# EAGLE library part STM32F4-DISCOVERY (library STM32F4-DISCOVERY_CF_INTECH)
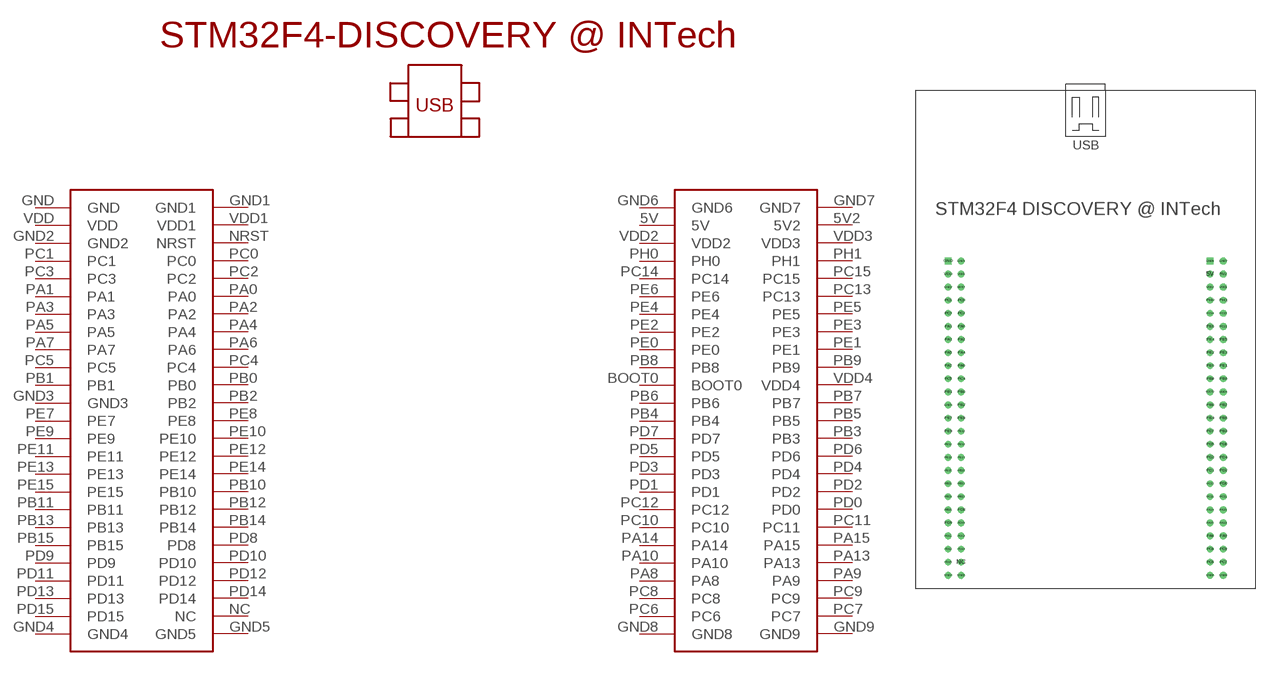
[diagram p0: symbol with the pads of STM32F4-DISCOVERY; footprint STM32F4-DISCOVERY]

Designator prefix -

## STM32F4-DISCOVERY  [STM32F4-DISCOVERY]
5V  5V
5V2  5V2
BOOT0  BOOT0
GND  GND
GND1  GND1
GND2  GND2
GND3  GND3
GND4  GND4
GND5  GND5
GND6  GND6
GND7  GND7
GND8  GND8
GND9  GND9
NC  NC
NRST  NRST
PA0  PA0
PA1  PA1
PA2  PA2
PA3  PA3
PA4  PA4
PA5  PA5
PA6  PA6
PA7  PA7
PA8  PA8
PA9  PA9
PA10  PA10
PA13  PA13
PA14  PA14
PA15  PA15
PB0  PB0
PB1  PB1
PB2  PB2
PB3  PB3
PB4  PB4
PB5  PB5
PB6  PB6
PB7  PB7
PB8  PB8
PB9  PB9
PB10  PB10
PB11  PB11
PB12  PB12
PB13  PB13
PB14  PB14
PB15  PB15
PC0  PC0
PC1  PC1
PC2  PC2
PC3  PC3
PC4  PC4
PC5  PC5
PC6  PC6
PC7  PC7
PC8  PC8
PC9  PC9
PC10  PC10
PC11  PC11
PC12  PC12
PC13  PC13
PC14  PC14
PC15  PC15
PD0  PD0
PD1  PD1
PD2  PD2
PD3  PD3
PD4  PD4
PD5  PD5
PD6  PD6
PD7  PD7
PD8  PD8
PD9  PD9
PD10  PD10
PD11  PD11
PD12  PD12
PD13  PD13
PD14  PD14
PD15  PD15
PE0  PE0
PE1  PE1
PE2  PE2
PE3  PE3
PE4  PE4
PE5  PE5
PE6  PE6
PE7  PE7
PE8  PE8
PE9  PE9
PE10  PE10
PE11  PE11
PE12  PE12
PE13  PE13
PE14  PE14
PE15  PE15
PH0  PH0
PH1  PH1
VDD  VDD
VDD1  VDD1
VDD2  VDD2
VDD3  VDD3
VDD4  VDD4

## Footprint STM32F4-DISCOVERY (pad centres in mm)
drill 0.8: 5V 24.13,12.7; 5V2 26.67,12.7; BOOT0 24.13,-10.16; GND1 -24.13,15.24; GND2 -26.67,10.16; GND3 -26.67,-12.7; GND4 -26.67,-45.72; GND5 -24.13,-45.72; GND7 26.67,15.24; GND8 24.13,-45.72; GND9 26.67,-45.72; NC -24.13,-43.18; NRST -24.13,10.16; PA0 -24.13,2.54; PA1 -26.67,2.54; PA2 -24.13,0; PA3 -26.67,0; PA4 -24.13,-2.54; PA5 -26.67,-2.54; PA6 -24.13,-5.08; PA7 -26.67,-5.08; PA8 24.13,-38.1; PA9 26.67,-38.1; PA10 24.13,-35.56; PA13 26.67,-35.56; PA14 24.13,-33.02; PA15 26.67,-33.02; PB0 -24.13,-10.16; PB1 -26.67,-10.16; PB2 -24.13,-12.7; PB3 26.67,-17.78; PB4 24.13,-15.24; PB5 26.67,-15.24; PB6 24.13,-12.7; PB7 26.67,-12.7; PB8 24.13,-7.62; PB9 26.67,-7.62; PB10 -24.13,-25.4; PB11 -26.67,-27.94; PB12 -24.13,-27.94; PB13 -26.67,-30.48; PB14 -24.13,-30.48; PB15 -26.67,-33.02; PC0 -24.13,7.62; PC1 -26.67,7.62; PC2 -24.13,5.08; PC3 -26.67,5.08; PC4 -24.13,-7.62; PC5 -26.67,-7.62; PC6 24.13,-43.18; PC7 26.67,-43.18; PC8 24.13,-40.64; PC9 26.67,-40.64; PC10 24.13,-30.48; PC11 26.67,-30.48; PC12 24.13,-27.94; PC13 26.67,2.54; PC14 24.13,5.08; PC15 26.67,5.08; PD0 26.67,-27.94; PD1 24.13,-25.4; PD2 26.67,-25.4; PD3 24.13,-22.86; PD4 26.67,-22.86; PD5 24.13,-20.32; PD6 26.67,-20.32; PD7 24.13,-17.78; PD8 -24.13,-33.02; PD9 -26.67,-35.56; PD10 -24.13,-35.56; PD11 -26.67,-38.1; PD12 -24.13,-38.1; PD13 -26.67,-40.64; PD14 -24.13,-40.64; PD15 -26.67,-43.18; PE0 24.13,-5.08; PE1 26.67,-5.08; PE2 24.13,-2.54; PE3 26.67,-2.54; PE4 24.13,0; PE5 26.67,0; PE6 24.13,2.54; PE7 -26.67,-15.24; PE8 -24.13,-15.24; PE9 -26.67,-17.78; PE10 -24.13,-17.78; PE11 -26.67,-20.32; PE12 -24.13,-20.32; PE13 -26.67,-22.86; PE14 -24.13,-22.86; PE15 -26.67,-25.4; PH0 24.13,7.62; PH1 26.67,7.62; VDD -26.67,12.7; VDD1 -24.13,12.7; VDD2 24.13,10.16; VDD3 26.67,10.16; VDD4 26.67,-10.16
drill 0.8 square: GND -26.67,15.24; GND6 24.13,15.24